# EAGLE library part ADAFRUIT-BNO055 (library Adafruit BNO055)
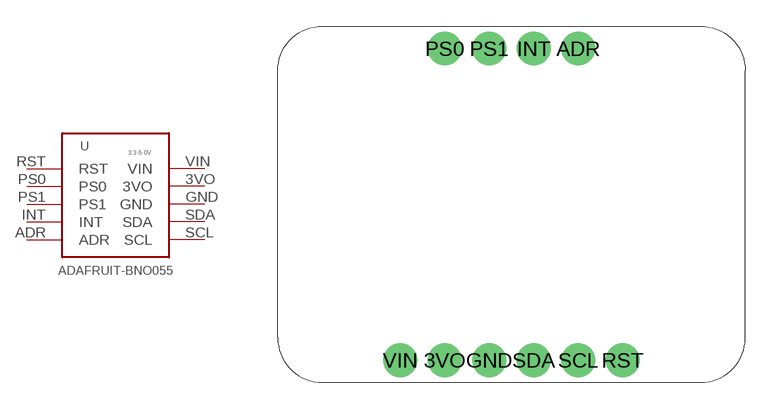
[diagram p1: symbol with the pads of ADAFRUIT-BNO055; footprint ADAFRUIT-BNO055]

Designator prefix -

## ADAFRUIT-BNO055  [ADAFRUIT-BNO055]
3VO  3VO
ADR  ADR
GND  GND
INT  INT
PS0  PS0
PS1  PS1
RST  RST
SCL  SCL
SDA  SDA
VIN  VIN

## Footprint ADAFRUIT-BNO055 (pad centres in mm)
drill 1 pad 1.93: 3VO 9.525,1.27; ADR 17.145,19.05; GND 12.065,1.27; INT 14.605,19.05; PS0 9.525,19.05; PS1 12.065,19.05; RST 19.685,1.27; SCL 17.145,1.27; SDA 14.605,1.27; VIN 6.985,1.27